# Altium footprint library PcbLib1.PcbLib: 36 footprints (part 3 of 3)
Each footprint in its own frame and in the unit in brackets; x right, y up, seen from the top. Pads: shape width x height; smd on the part's side, far side on the other; paste and mask are expansions set on the pad; w line width, h text height; cw(c..) or ccw(c..) is an arc to the next point about the centre after c.
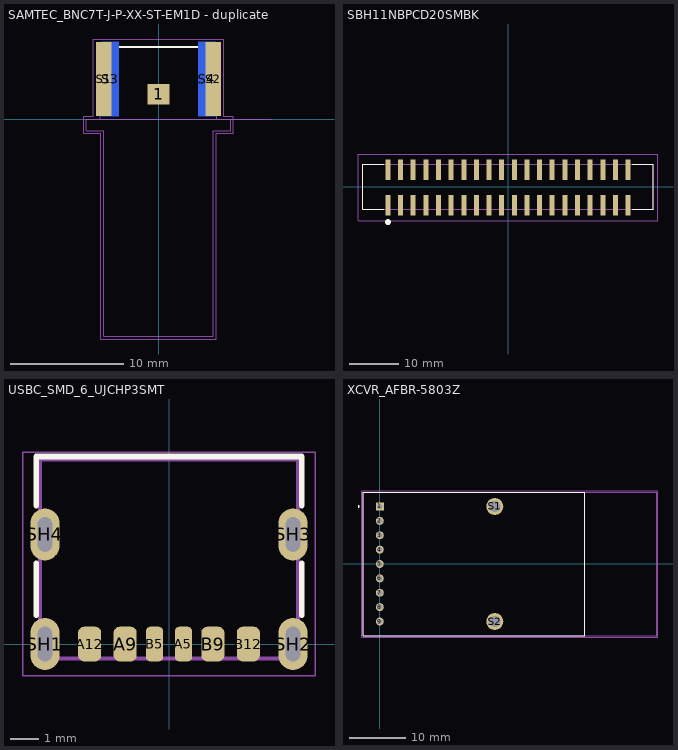
[diagram p2: the footprints below, top view; thin cyan lines are the x and y axes]

## SAMTEC_BNC7T-J-P-XX-ST-EM1D - duplicate [mm]
pads (5):
  rect 1.98x1.83 smd: 1(0,2.185)
  rect 1.35x6.55 smd: S1(-4.825,3.525) S2(4.825,3.525)
  rect 1.5x6.55 smd far side: S3(-4.25,3.525) S4(4.25,3.525)
Top Overlay:
  lines w0.2: -3.8,6.35 3.8,6.35
Mechanical 13:
  lines w0.1: 9.95,0 6.35,0 ; -5.15,0 -5.15,6.35 5.15,6.35 5.15,0 ; -5.15,0 -6.35,0 -6.35,-1.02 -4.825,-1.02 -4.825,-19.13 4.825,-19.13 4.825,-1.02 6.35,-1.02 6.35,0 ; -5.15,0 5.15,0 ; 5.15,0 6.35,0
  text "PCB Edge" at 6.25,0.25 h1.27
Mechanical 15:
  lines w0.05: -6.6,-1.27 -6.6,0.25 -5.75,0.25 -5.75,7.05 5.75,7.05 5.75,0.25 6.6,0.25 6.6,-1.27 5.075,-1.27 5.075,-19.38 -5.075,-19.38 -5.075,-1.27 -6.6,-1.27
3D body "BNC7T-J-P-GN-ST-EM1D.stp": height 8.05, standoff -7.95, extent -7.988,-21.61 8,3.87

## SBH11NBPCD20SMBK [mm]
pads (40):
  rect 1x4.15 smd: 1(-24.13,-3.725) 2(-24.13,3.425) 3(-21.59,-3.725) 4(-21.59,3.425) 5(-19.05,-3.725) 6(-19.05,3.425) 7(-16.51,-3.725) 8(-16.51,3.425) 9(-13.97,-3.725) 10(-13.97,3.425) 11(-11.43,-3.725) 12(-11.43,3.425) 13(-8.89,-3.725) 14(-8.89,3.425) 15(-6.35,-3.725) 16(-6.35,3.425) 17(-3.81,-3.725) 18(-3.81,3.425) 19(-1.27,-3.725) 20(-1.27,3.425) 21(1.27,-3.725) 22(1.27,3.425) 23(3.81,-3.725) 24(3.81,3.425) 25(6.35,-3.725) 26(6.35,3.425) 27(8.89,-3.725) 28(8.89,3.425) 29(11.43,-3.725) 30(11.43,3.425) 31(13.97,-3.725) 32(13.97,3.425) 33(16.51,-3.725) 34(16.51,3.425) 35(19.05,-3.725) 36(19.05,3.425) 37(21.59,-3.725) 38(21.59,3.425) 39(24.13,-3.725) 40(24.13,3.425)
Top Overlay:
  circle w0.6: c-24.13,-7.112 r0.3
  lines w0.2: -25,-4.55 -29.15,-4.55 -29.15,4.55 -25,4.55 ; 25,-4.55 29.15,-4.55 29.15,4.55 25,4.55
Mechanical 13:
  lines w0.1: -29.15,-4.55 29.15,-4.55 29.15,4.55 -29.15,4.55 -29.15,-4.55
Mechanical 15:
  lines w0.1: -30.15,-6.8 30.15,-6.8 30.15,6.5 -30.15,6.5 -30.15,-6.8
3D body "HTST-120-01-L-DV.stp": height 10.16, standoff 0, extent -29.21,-5.588 29.21,5.588

## USBC_SMD_6_UJCHP3SMT [mm] "CONN, USB, Type C, UJC-HP-3-SMT, popular*"
pads (10):
  rrect50% 0.6x1.2 smd mask+0.075: A5(0.5,0) B5(-0.5,0)
  rrect50% 0.8x1.2 smd mask+0.075: A9(-1.52,0) A12(-2.75,0) B9(1.52,0) B12(2.75,0)
  oval 1x1.8 hole 0.5 slot 1.2 at 90 deg unplated: SH1(-4.3,0) SH2(4.3,0) SH3(4.3,3.8) SH4(-4.3,3.8)
Top Overlay:
  lines w0.2: -4.6,1 -4.6,2.8 ; -4.6,4.8 -4.6,6.5 4.6,6.5 4.6,4.8 ; 4.6,1 4.6,2.8
Mechanical 13:
  lines w0.127: -4.47,-0.5 4.47,-0.5 4.47,6.4 -4.47,6.4 -4.47,-0.5
Mechanical 15:
  lines w0.05: -5.07,-1.1 5.07,-1.1 5.07,6.65 -5.07,6.65 -5.07,-1.1
3D body "UJC-HP-3-SMT-TR.step": height 3.23, standoff -1.03, extent -4.47,-0.519 4.47,6.381

## XCVR_AFBR-5803Z [mm]
pads (11):
  rect 1.408x1.408 hole 0.9: 1(0,10.16)
  round 1.408 hole 0.9: 2(0,7.62) 3(0,5.08) 4(0,2.54) 5(0,0) 6(0,-2.54) 7(0,-5.08) 8(0,-7.62) 9(0,-10.16)
  round 3 hole 2: S1(20.32,10.16) S2(20.32,-10.16)
Top Overlay:
  circle w0.2: c-3.75,10.16 r0.1
  lines w0.127: -2.92,-12.7 -2.92,12.7 36.2,12.7 36.2,-12.7 -2.92,-12.7
Mechanical 13:
  circle w0.2: c-3.75,10.16 r0.1
  lines w0.127: 36.2,-12.7 -2.92,-12.7 -2.92,12.7 36.2,12.7 ; 36.2,-12.7 36.2,12.7 ; 36.2,-12.7 48.9,-12.7 48.9,12.7 36.2,12.7
Mechanical 15:
  lines w0.05: -3.17,-12.95 49.15,-12.95 49.15,12.95 -3.17,12.95 -3.17,-12.95
3D body "AFBR-5803Z.STEP": height 11.18, standoff -3.7, extent -2.921,-12.7 36.199,12.7